# Altium footprint library MOLEX-PB-8-R.PcbLib: 1 footprints
Each footprint in its own frame and in the unit in brackets; x right, y up, seen from the top. Pads: shape width x height; smd on the part's side, far side on the other; paste and mask are expansions set on the pad; w line width, h text height; cw(c..) or ccw(c..) is an arc to the next point about the centre after c.
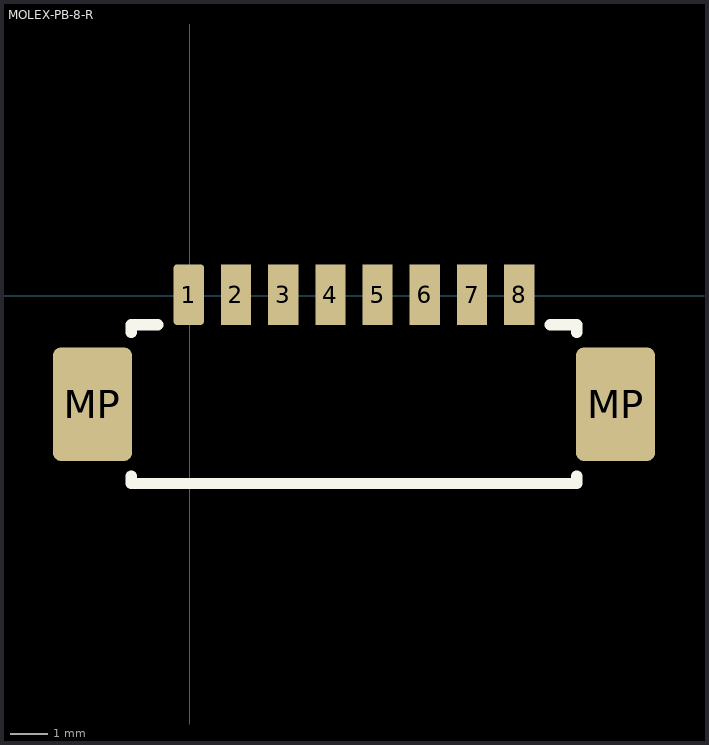
[diagram p0: the footprint, top view; thin cyan lines are the x and y axes]

## MOLEX-PB-8-R [mm]
pads (10):
  rrect20% 0.8x1.6 smd: 1(-0.025,0.025)
  rect 0.8x1.6 smd: 2(1.225,0.025) 3(2.475,0.025) 4(3.725,0.025) 5(4.975,0.025) 6(6.225,0.025) 7(7.475,0.025) 8(8.725,0.025)
  rrect20% 2.1x3 smd: MP(-2.575,-2.875) MP(11.275,-2.875)
Top Overlay:
  lines w0.3: -1.55,-4.775 -1.55,-4.975 10.25,-4.975 10.25,-4.775 ; -1.55,-0.975 -1.55,-0.775 -0.85,-0.775 ; 9.55,-0.775 10.25,-0.775 10.25,-0.975
3D body "53261-0871.stp": height 3.4, standoff 0, extent -3.2,-4.715 11.95,0.485